# Altium footprint library MELF3.PcbLib: 1 footprints
Each footprint in its own frame and in the unit in brackets; x right, y up, seen from the top. Pads: shape width x height; smd on the part's side, far side on the other; paste and mask are expansions set on the pad; w line width, h text height; cw(c..) or ccw(c..) is an arc to the next point about the centre after c.
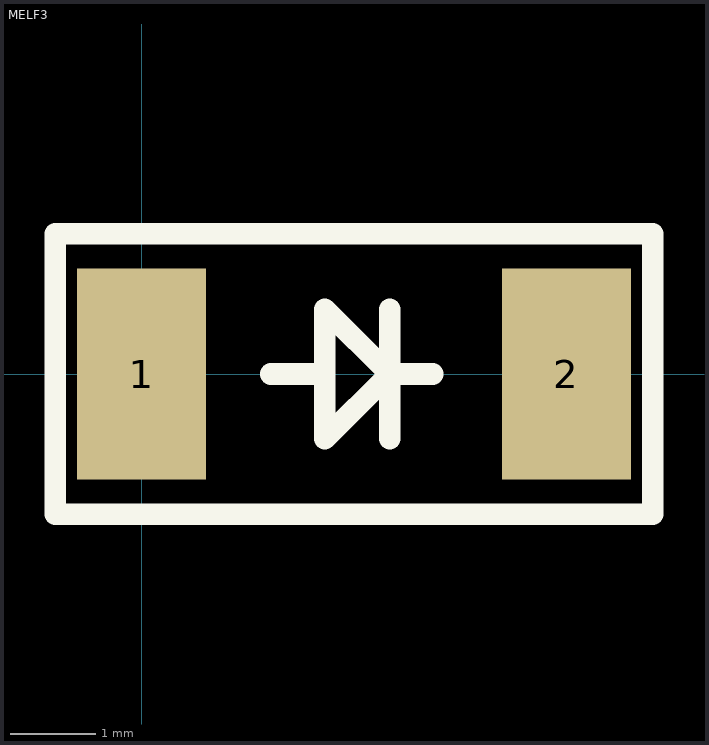
[diagram p0: the footprint, top view; thin cyan lines are the x and y axes]

## MELF3 [mil]
pads (2):
  rect 60x98 smd: 1(0,0) 2(197,0)
TopOverlay:
  lines w10: 60,0 85,0 ; 115,-30 115,0 ; 115,30 115,0 ; 135,0 115,0 ; 85,0 85,30 115,0 ; 85,0 85,-30 115,0 ; -40,-65 237,-65 237,65 -40,65 -40,-65
Mechanical4:
  text ".1" at 0,0 h1